# EAGLE library part IRS2304S (library International_Rectifier_By_element14_Batch_1)
IC DVR HALF BRIDGE HV HS 8-SOIC
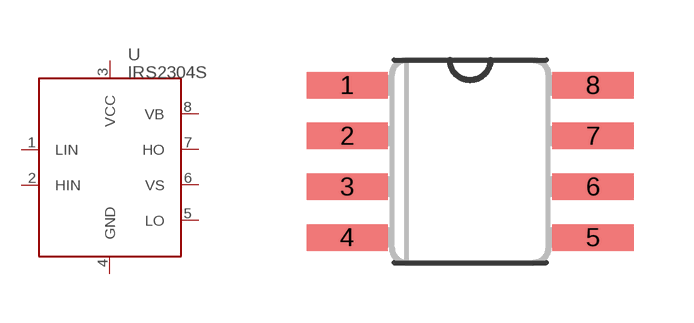
[diagram p107: symbol with the pads of SOIC8; footprint SOIC8]

Designator prefix U

## IRS2304S (DIGIKEY: IRS2304SPBF-ND; P1I: o)  [SOIC8]
1  LIN
2  HIN
3  VCC
4  GND
5  LO
6  VS
7  HO
8  VB

## Footprint SOIC8 (pad centres in mm)
Small Outline Package
smd 2.032 x 0.66: 1 -3.073,1.905; 2 -3.073,0.635; 3 -3.073,-0.635; 4 -3.073,-1.905; 5 3.073,-1.905; 6 3.073,-0.635; 7 3.073,0.635; 8 3.073,1.905